# EAGLE library part EC2-12NU (library Phonetastic)
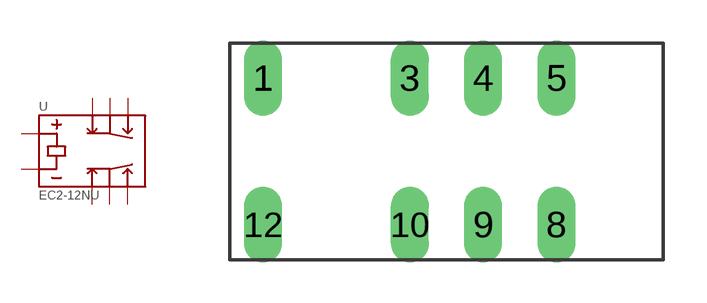
[diagram p0: symbol with the pads of EC2; footprint EC2]

Designator prefix U

## EC2-12NU  [EC2]
1  1
3  3
4  4
5  5
8  8
9  9
10  10
12  12

## Footprint EC2 (pad centres in mm)
drill 0.8 long: 1 -6.35,2.54; 3 -1.27,2.54; 4 1.27,2.54; 5 3.81,2.54; 8 3.81,-2.54; 9 1.27,-2.54; 10 -1.27,-2.54; 12 -6.35,-2.54